# Altium footprint library QUTMS_CrystalLibrary.PcbLib: 2 footprints
Each footprint in its own frame and in the unit in brackets; x right, y up, seen from the top. Pads: shape width x height; smd on the part's side, far side on the other; paste and mask are expansions set on the pad; w line width, h text height; cw(c..) or ccw(c..) is an arc to the next point about the centre after c.
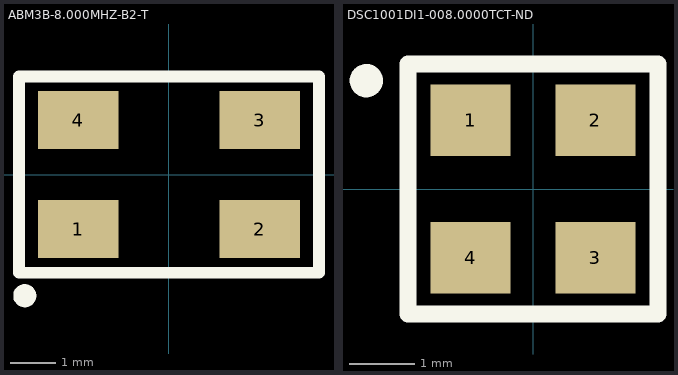
[diagram p0: the footprints below, top view; thin cyan lines are the x and y axes]

## ABM3B-8.000MHZ-B2-T [mm] "8MHz Crystal"
pads (4):
  rect 1.778x1.27 smd: 1(-2,-1.2) 2(2,-1.2) 3(2,1.2) 4(-2,1.2)
Top Overlay:
  circle w0.254: c-3.175,-2.667 r0.127
  lines w0.254: -3.302,-2.159 -3.302,2.159 3.302,2.159 3.302,-2.159 -3.302,-2.159
3D body: height 1.1, standoff 0, extent -2.508,-1.587 2.508,1.588

## DSC1001DI1-008.0000TCT-ND [mm]
pads (4):
  rect 1.219x1.092 smd: 1(-0.95,1.05) 2(0.95,1.05) 3(0.95,-1.05) 4(-0.95,-1.05)
Top Overlay:
  circle w0.254: c-2.54,1.651 r0.127
  lines w0.254: -1.905,-1.905 -1.905,1.905 1.905,1.905 1.905,-1.905 -1.905,-1.905
3D body: height 0.85, standoff 0, extent -1.25,-1.6 1.25,1.6